# Altium schematic symbol library ABLS-16.000MHZ-B4-T.SchLib: 1 symbol
Pins are listed as number, name and electrical type; pins without a type are passive.

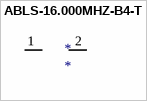
[diagram p0: symbol ABLS-16.000MHZ-B4-T]

## ABLS-16.000MHZ-B4-T
designator *
Crystal Oscillator
pins: 1, 2